# Altium schematic symbol library 0452003.MRL.SchLib: 1 symbol
Pins are listed as number, name and electrical type; pins without a type are passive.

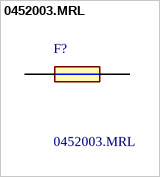
[diagram p0: symbol 0452003.MRL]

## 0452003.MRL
designator F?
Fuse SMD NANO2 Slo-Blo 3A T Littelfuse 3A T Surface Mount Fuse, 125 V ac/dc; Geometry.Height: 2.94mm; Mouser Part Number: 576-0452003.MRL; Mouser Price/Stock: https://www.mouser.co.uk/ProductDetail/Littelfuse/0452003.MRL?qs=LpXnx4WbYtASasaWrk%2F1Ow%3D%3D; Manufacturer_Name: LITTELFUSE; Manufacturer_Part_Number: 0452003.MRL; Datasheet Link: http://www.littelfuse.com/~/media/electronics/datasheets/fuses/littelfuse_fuse_452_454_datasheet.pdf.pdf
footprint FUSC6127X294N
pins: 1, 2